# EAGLE library part SP3232EET-L (library Exar_By_element14_Batch_1)
RS-232 Line Drivers/Receivers
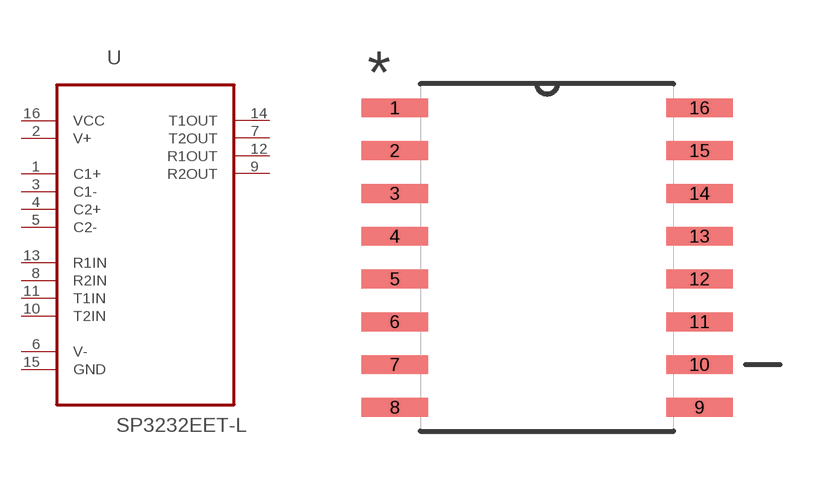
[diagram p29: symbol with the pads of SOIC127P1030X265-16N; footprint SOIC127P1030X265-16N]

Designator prefix U

## SP3232EET-L (MPN: SP3232EET-L; OC_FARNELL: 1758642; OC_NEWARK: 24R0382; PACKAGE: SOIC-16; SUPPLIER: Exar)  [SOIC127P1030X265-16N]
1  C1+  pas
2  V+  pwr
3  C1-  pas
4  C2+  pas
5  C2-  pas
6  V-  pwr
7  T2OUT  out
8  R2IN  in
9  R2OUT  out
10  T2IN  in
11  T1IN  in
12  R1OUT  out
13  R1IN  in
14  T1OUT  out
15  GND  pas
16  VCC  pwr

## Footprint SOIC127P1030X265-16N (pad centres in mm)
smd 1.981 x 0.559: 1 -4.521,4.445; 2 -4.521,3.175; 3 -4.521,1.905; 4 -4.521,0.635; 5 -4.521,-0.635; 6 -4.521,-1.905; 7 -4.521,-3.175; 8 -4.521,-4.445; 9 4.521,-4.445; 10 4.521,-3.175; 11 4.521,-1.905; 12 4.521,-0.635; 13 4.521,0.635; 14 4.521,1.905; 15 4.521,3.175; 16 4.521,4.445